# Altium integrated library Analog Devices Interface and Isolation Protection Products.IntLib: 92 symbols (part 1 of 5)
Pins are listed as number, name and electrical type; pins without a type are passive.

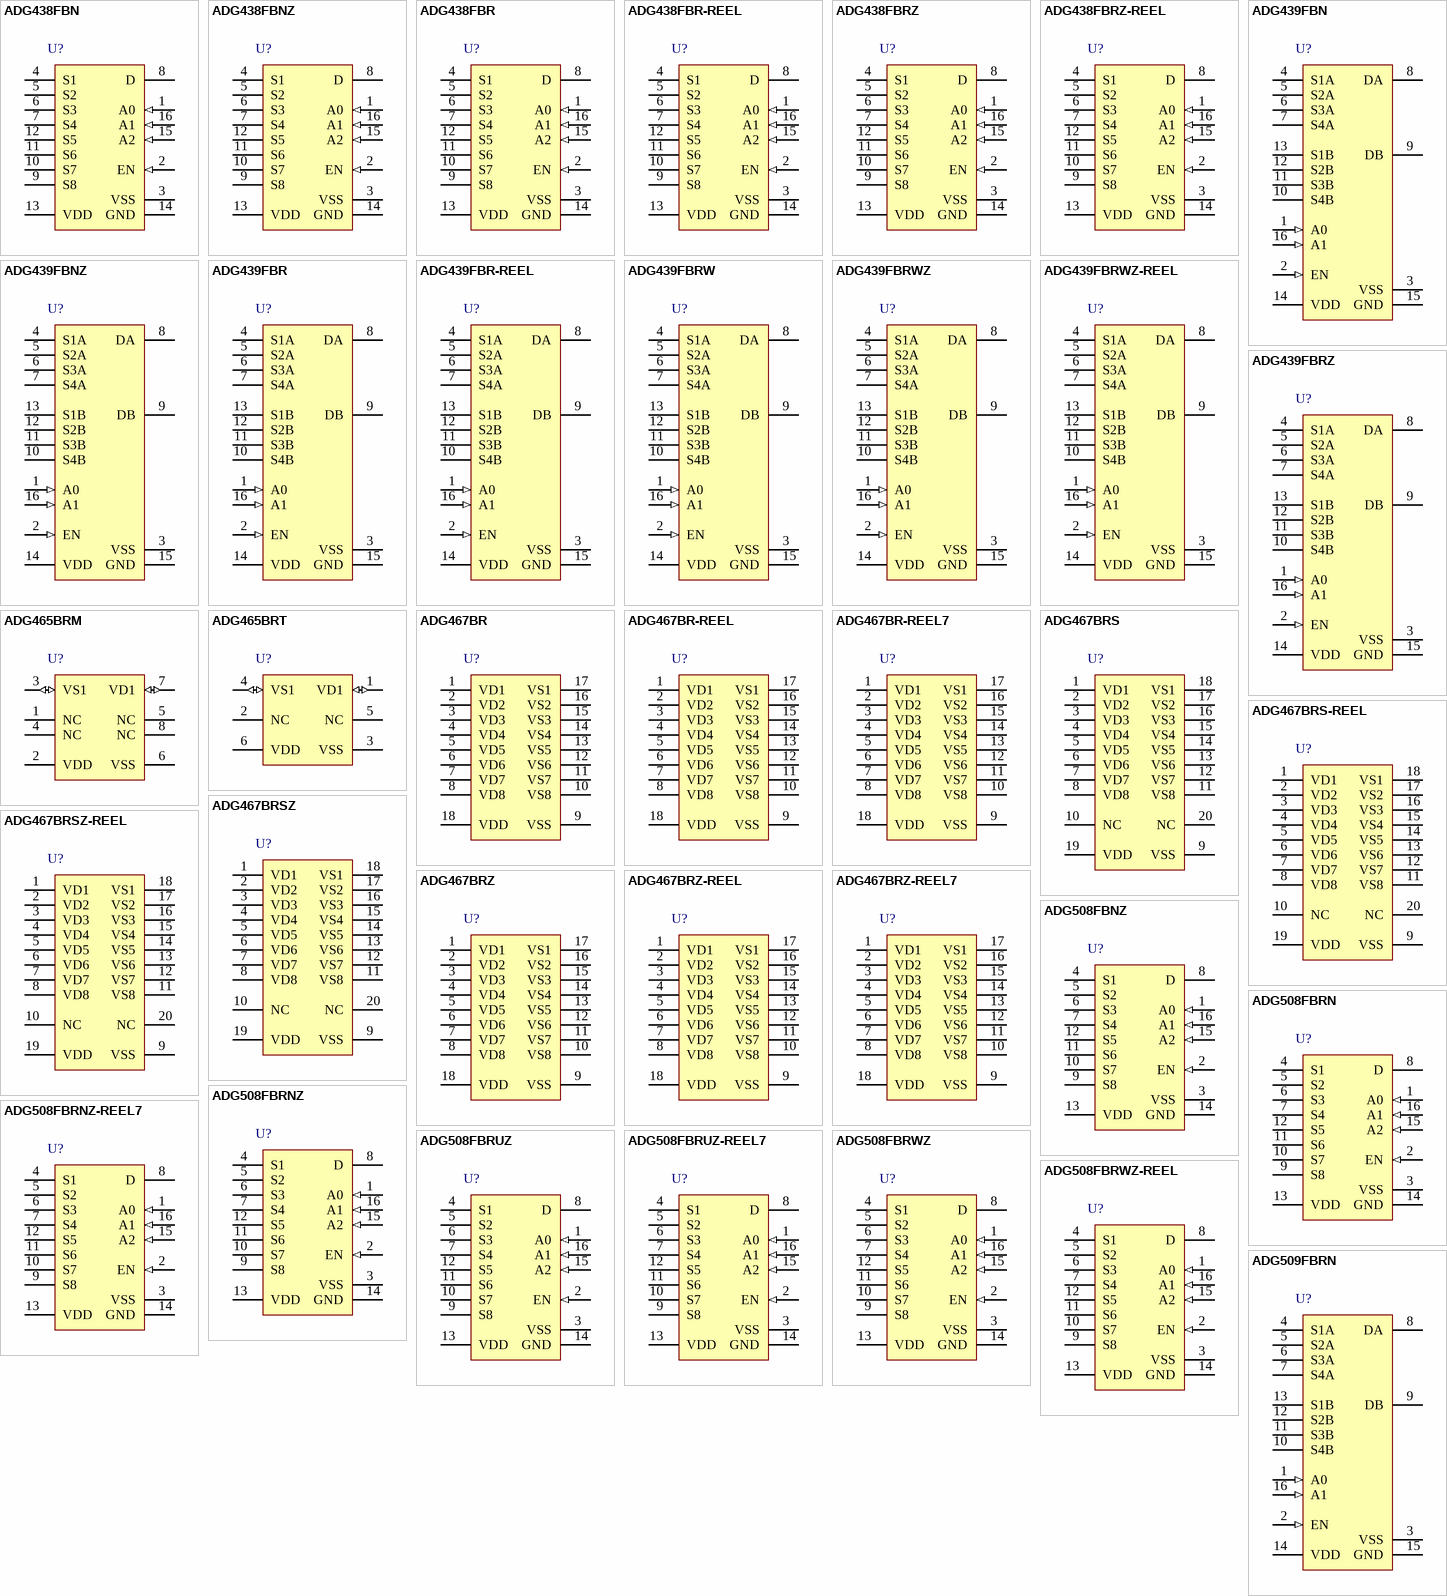
[diagram p0: symbols ADG438FBN to ADG509FBRN]

## ADG438FBN
designator U?
High Performance, 8-Channel, Fault-Protected Analog Multiplexer, -40 to 125 degC, 16-pin DIP (N-16), Tube; Manufacturer: Analog Devices; PartNumber: ADG438FBN; Ron (ohms): 400; Supply V Guar Performance: Dual_(+/-15V); t transition (s): 170n; DatasheetVersion: Rev. E; PackageVersion: 070706-A, 07/2006; PackageReference: N-16; PackageDescription: 16-Pin Plastic Dual In-Line Package, Row spacing 7.62 mm, Pitch 2.54 mm; Packing: Tube; Mounting Technology: Through Hole; Code_JEDEC: MS-001; ComponentLink1Description: Manufacturer URL; ComponentLink1URL: http://www.analog.com/en/index.html; ComponentLink2Description: Datasheet; ComponentLink2URL: http://www.analog.com/static/imported-files/data_sheets/ADG438F_439F.pdf; ComponentLink3Description: Package Specification; ComponentLink3URL: http://www.analog.com/static/imported-files/packages/44768431550332N_16.pdf
footprint ADI-N-16 (DIP, 16-Leads, Body 20.07x6.6mm, Pitch 2.54mm)
pins: 1 A0 (in) "Logic Control Input.", 2 EN (in) "Active High Digital Input. When low, the device is disabled, and all switches are off. When high, Ax logic inputs determine on switches.", 3 VSS (power) "Most Negative Power Supply Potential. In single-supply applications, this pin can be connected to ground.", 4 S1 "Source Terminal 1. This pin can be an input or an output.", 5 S2 "Source Terminal 2. This pin can be an input or an output.", 6 S3 "Source Terminal 3. This pin can be an input or an output.", 7 S4 "Source Terminal 4. This pin can be an input or an output.", 8 D "Drain Terminal. This pin can be an input or an output.", 9 S8 "Source Terminal 8. This pin can be an input or an output.", 10 S7 "Source Terminal 7. This pin can be an input or an output.", 11 S6 "Source Terminal 6. This pin can be an input or an output.", 12 S5 "Source Terminal 5. This pin can be an input or an output.", 13 VDD (power) "Most Positive Power Supply Potential.", 14 GND (power) "Ground (0 V) Reference.", 15 A2 (in) "Logic Control Input.", 16 A1 (in) "Logic Control Input."

## ADG438FBNZ
designator U?
High Performance, 8-Channel, Fault-Protected Analog Multiplexer, -40 to 125 degC, 16-pin DIP (N-16), Tube; Manufacturer: Analog Devices; PartNumber: ADG438FBNZ; Ron (ohms): 400; Supply V Guar Performance: Dual_(+/-15V); t transition (s): 170n; DatasheetVersion: Rev. E; PackageVersion: 070706-A, 07/2006; PackageReference: N-16; PackageDescription: 16-Pin Plastic Dual In-Line Package, Row spacing 7.62 mm, Pitch 2.54 mm; Supplier 1: Mouser; Supplier Part Number 1: N/A; Packing: Tube; Mounting Technology: Through Hole; Code_JEDEC: MS-001; ComponentLink1Description: Manufacturer URL; ComponentLink1URL: http://www.analog.com/en/index.html; ComponentLink2Description: Datasheet; ComponentLink2URL: http://www.analog.com/static/imported-files/data_sheets/ADG438F_439F.pdf; ComponentLink3Description: Package Specification; ComponentLink3URL: http://www.analog.com/static/imported-files/packages/44768431550332N_16.pdf
footprint ADI-N-16 (DIP, 16-Leads, Body 20.07x6.6mm, Pitch 2.54mm)
pins: 1 A0 (in) "Logic Control Input.", 2 EN (in) "Active High Digital Input. When low, the device is disabled, and all switches are off. When high, Ax logic inputs determine on switches.", 3 VSS (power) "Most Negative Power Supply Potential. In single-supply applications, this pin can be connected to ground.", 4 S1 "Source Terminal 1. This pin can be an input or an output.", 5 S2 "Source Terminal 2. This pin can be an input or an output.", 6 S3 "Source Terminal 3. This pin can be an input or an output.", 7 S4 "Source Terminal 4. This pin can be an input or an output.", 8 D "Drain Terminal. This pin can be an input or an output.", 9 S8 "Source Terminal 8. This pin can be an input or an output.", 10 S7 "Source Terminal 7. This pin can be an input or an output.", 11 S6 "Source Terminal 6. This pin can be an input or an output.", 12 S5 "Source Terminal 5. This pin can be an input or an output.", 13 VDD (power) "Most Positive Power Supply Potential.", 14 GND (power) "Ground (0 V) Reference.", 15 A2 (in) "Logic Control Input.", 16 A1 (in) "Logic Control Input."

## ADG438FBR
designator U?
High Performance, 8-Channel, Fault-Protected Analog Multiplexer, -40 to 125 degC, 16-pin SOIC (R-16), Tube; Manufacturer: Analog Devices; PartNumber: ADG438FBR; Ron (ohms): 400; Supply V Guar Performance: Dual_(+/-15V); t transition (s): 170n; DatasheetVersion: Rev. E; PackageVersion: 060606-A, 06/2006; PackageReference: R-16; PackageDescription: 16-Pin Standard Small Outline Package, Body 9.9 x 3.9 mm, Pitch 1.27 mm; Supplier 1: Digi-Key; Supplier Part Number 1: ADG438FBR-ND; Supplier 2: Mouser; Supplier Part Number 2: 584-ADG438FBR; Packing: Tube; Mounting Technology: Surface Mount; Code_JEDEC: MS-012-AC; ComponentLink1Description: Manufacturer URL; ComponentLink1URL: http://www.analog.com/en/index.html; ComponentLink2Description: Datasheet; ComponentLink2URL: http://www.analog.com/static/imported-files/data_sheets/ADG438F_439F.pdf; ComponentLink3Description: Package Specification; ComponentLink3URL: http://www.analog.com/static/imported-files/packages/PKG_PDF/SOIC_Narrow%20(R)/R_16.pdf
footprint ADI-R-16_N (SOIC, 16-Leads, Body 9.9x3.9mm, Pitch 1.27mm, IPC Medium Density)
footprint ADI-R-16_L (SOIC, 16-Leads, Body 9.9x3.9mm, Pitch 1.27mm, IPC High Density)
footprint ADI-R-16_M (SOIC, 16-Leads, Body 9.9x3.9mm, Pitch 1.27mm, IPC Low Density)
pins: 1 A0 (in) "Logic Control Input.", 2 EN (in) "Active High Digital Input. When low, the device is disabled, and all switches are off. When high, Ax logic inputs determine on switches.", 3 VSS (power) "Most Negative Power Supply Potential. In single-supply applications, this pin can be connected to ground.", 4 S1 "Source Terminal 1. This pin can be an input or an output.", 5 S2 "Source Terminal 2. This pin can be an input or an output.", 6 S3 "Source Terminal 3. This pin can be an input or an output.", 7 S4 "Source Terminal 4. This pin can be an input or an output.", 8 D "Drain Terminal. This pin can be an input or an output.", 9 S8 "Source Terminal 8. This pin can be an input or an output.", 10 S7 "Source Terminal 7. This pin can be an input or an output.", 11 S6 "Source Terminal 6. This pin can be an input or an output.", 12 S5 "Source Terminal 5. This pin can be an input or an output.", 13 VDD (power) "Most Positive Power Supply Potential.", 14 GND (power) "Ground (0 V) Reference.", 15 A2 (in) "Logic Control Input.", 16 A1 (in) "Logic Control Input."

## ADG438FBR-REEL
designator U?
High Performance, 8-Channel, Fault-Protected Analog Multiplexer, -40 to 125 degC, 16-pin SOIC (R-16), Reel; Manufacturer: Analog Devices; PartNumber: ADG438FBR-REEL; Ron (ohms): 400; Supply V Guar Performance: Dual_(+/-15V); t transition (s): 170n; DatasheetVersion: Rev. E; PackageVersion: 060606-A, 06/2006; PackageReference: R-16; PackageDescription: 16-Pin Standard Small Outline Package, Body 9.9 x 3.9 mm, Pitch 1.27 mm; Supplier 1: Mouser; Supplier Part Number 1: N/A; Packing: Reel; Mounting Technology: Surface Mount; Code_JEDEC: MS-012-AC; ComponentLink1Description: Manufacturer URL; ComponentLink1URL: http://www.analog.com/en/index.html; ComponentLink2Description: Datasheet; ComponentLink2URL: http://www.analog.com/static/imported-files/data_sheets/ADG438F_439F.pdf; ComponentLink3Description: Package Specification; ComponentLink3URL: http://www.analog.com/static/imported-files/packages/PKG_PDF/SOIC_Narrow%20(R)/R_16.pdf
footprint ADI-R-16_N (SOIC, 16-Leads, Body 9.9x3.9mm, Pitch 1.27mm, IPC Medium Density)
footprint ADI-R-16_L (SOIC, 16-Leads, Body 9.9x3.9mm, Pitch 1.27mm, IPC High Density)
footprint ADI-R-16_M (SOIC, 16-Leads, Body 9.9x3.9mm, Pitch 1.27mm, IPC Low Density)
pins: 1 A0 (in) "Logic Control Input.", 2 EN (in) "Active High Digital Input. When low, the device is disabled, and all switches are off. When high, Ax logic inputs determine on switches.", 3 VSS (power) "Most Negative Power Supply Potential. In single-supply applications, this pin can be connected to ground.", 4 S1 "Source Terminal 1. This pin can be an input or an output.", 5 S2 "Source Terminal 2. This pin can be an input or an output.", 6 S3 "Source Terminal 3. This pin can be an input or an output.", 7 S4 "Source Terminal 4. This pin can be an input or an output.", 8 D "Drain Terminal. This pin can be an input or an output.", 9 S8 "Source Terminal 8. This pin can be an input or an output.", 10 S7 "Source Terminal 7. This pin can be an input or an output.", 11 S6 "Source Terminal 6. This pin can be an input or an output.", 12 S5 "Source Terminal 5. This pin can be an input or an output.", 13 VDD (power) "Most Positive Power Supply Potential.", 14 GND (power) "Ground (0 V) Reference.", 15 A2 (in) "Logic Control Input.", 16 A1 (in) "Logic Control Input."

## ADG438FBRZ
designator U?
High Performance, 8-Channel, Fault-Protected Analog Multiplexer, -40 to 125 degC, 16-pin SOIC (R-16), Tube; Manufacturer: Analog Devices; PartNumber: ADG438FBRZ; Ron (ohms): 400; Supply V Guar Performance: Dual_(+/-15V); t transition (s): 170n; DatasheetVersion: Rev. E; PackageVersion: 060606-A, 06/2006; PackageReference: R-16; PackageDescription: 16-Pin Standard Small Outline Package, Body 9.9 x 3.9 mm, Pitch 1.27 mm; Supplier 1: Digi-Key; Supplier Part Number 1: ADG438FBRZ-ND; Supplier 2: Farnell; Supplier Part Number 2: 2305796; Supplier 3: Newark; Supplier Part Number 3: 59K1296; Supplier 4: Mouser; Supplier Part Number 4: 584-ADG438FBRZ; Packing: Tube; Mounting Technology: Surface Mount; Code_JEDEC: MS-012-AC; ComponentLink1Description: Manufacturer URL; ComponentLink1URL: http://www.analog.com/en/index.html; ComponentLink2Description: Datasheet; ComponentLink2URL: http://www.analog.com/static/imported-files/data_sheets/ADG438F_439F.pdf; ComponentLink3Description: Package Specification; ComponentLink3URL: http://www.analog.com/static/imported-files/packages/PKG_PDF/SOIC_Narrow%20(R)/R_16.pdf
footprint ADI-R-16_N (SOIC, 16-Leads, Body 9.9x3.9mm, Pitch 1.27mm, IPC Medium Density)
footprint ADI-R-16_L (SOIC, 16-Leads, Body 9.9x3.9mm, Pitch 1.27mm, IPC High Density)
footprint ADI-R-16_M (SOIC, 16-Leads, Body 9.9x3.9mm, Pitch 1.27mm, IPC Low Density)
pins: 1 A0 (in) "Logic Control Input.", 2 EN (in) "Active High Digital Input. When low, the device is disabled, and all switches are off. When high, Ax logic inputs determine on switches.", 3 VSS (power) "Most Negative Power Supply Potential. In single-supply applications, this pin can be connected to ground.", 4 S1 "Source Terminal 1. This pin can be an input or an output.", 5 S2 "Source Terminal 2. This pin can be an input or an output.", 6 S3 "Source Terminal 3. This pin can be an input or an output.", 7 S4 "Source Terminal 4. This pin can be an input or an output.", 8 D "Drain Terminal. This pin can be an input or an output.", 9 S8 "Source Terminal 8. This pin can be an input or an output.", 10 S7 "Source Terminal 7. This pin can be an input or an output.", 11 S6 "Source Terminal 6. This pin can be an input or an output.", 12 S5 "Source Terminal 5. This pin can be an input or an output.", 13 VDD (power) "Most Positive Power Supply Potential.", 14 GND (power) "Ground (0 V) Reference.", 15 A2 (in) "Logic Control Input.", 16 A1 (in) "Logic Control Input."

## ADG438FBRZ-REEL
designator U?
High Performance, 8-Channel, Fault-Protected Analog Multiplexer, -40 to 125 degC, 16-pin SOIC (R-16), Reel; Manufacturer: Analog Devices; PartNumber: ADG438FBRZ-REEL; Ron (ohms): 400; Supply V Guar Performance: Dual_(+/-15V); t transition (s): 170n; DatasheetVersion: Rev. E; PackageVersion: 060606-A, 06/2006; PackageReference: R-16; PackageDescription: 16-Pin Standard Small Outline Package, Body 9.9 x 3.9 mm, Pitch 1.27 mm; Supplier 1: Digi-Key; Supplier Part Number 1: ADG438FBRZ-REEL-ND; Supplier 2: Newark; Supplier Part Number 2: 59K1297; Supplier 3: Mouser; Supplier Part Number 3: 584-ADG438FBRZ-R; Packing: Reel; Mounting Technology: Surface Mount; Code_JEDEC: MS-012-AC; ComponentLink1Description: Manufacturer URL; ComponentLink1URL: http://www.analog.com/en/index.html; ComponentLink2Description: Datasheet; ComponentLink2URL: http://www.analog.com/static/imported-files/data_sheets/ADG438F_439F.pdf; ComponentLink3Description: Package Specification; ComponentLink3URL: http://www.analog.com/static/imported-files/packages/PKG_PDF/SOIC_Narrow%20(R)/R_16.pdf
footprint ADI-R-16_N (SOIC, 16-Leads, Body 9.9x3.9mm, Pitch 1.27mm, IPC Medium Density)
footprint ADI-R-16_L (SOIC, 16-Leads, Body 9.9x3.9mm, Pitch 1.27mm, IPC High Density)
footprint ADI-R-16_M (SOIC, 16-Leads, Body 9.9x3.9mm, Pitch 1.27mm, IPC Low Density)
pins: 1 A0 (in) "Logic Control Input.", 2 EN (in) "Active High Digital Input. When low, the device is disabled, and all switches are off. When high, Ax logic inputs determine on switches.", 3 VSS (power) "Most Negative Power Supply Potential. In single-supply applications, this pin can be connected to ground.", 4 S1 "Source Terminal 1. This pin can be an input or an output.", 5 S2 "Source Terminal 2. This pin can be an input or an output.", 6 S3 "Source Terminal 3. This pin can be an input or an output.", 7 S4 "Source Terminal 4. This pin can be an input or an output.", 8 D "Drain Terminal. This pin can be an input or an output.", 9 S8 "Source Terminal 8. This pin can be an input or an output.", 10 S7 "Source Terminal 7. This pin can be an input or an output.", 11 S6 "Source Terminal 6. This pin can be an input or an output.", 12 S5 "Source Terminal 5. This pin can be an input or an output.", 13 VDD (power) "Most Positive Power Supply Potential.", 14 GND (power) "Ground (0 V) Reference.", 15 A2 (in) "Logic Control Input.", 16 A1 (in) "Logic Control Input."

## ADG439FBN
designator U?
High Performance, 4-Channel, Fault-Protected Analog Multiplexer, -40 to 125 degC, 16-pin DIP (N-16), Tube; Manufacturer: Analog Devices; PartNumber: ADG439FBN; Ron (ohms): 400; Supply V Guar Performance: Dual_(+/-15V); t transition (s): 170n; DatasheetVersion: Rev. E; PackageVersion: 070706-A, 07/2006; PackageReference: N-16; PackageDescription: 16-Pin Plastic Dual In-Line Package, Row spacing 7.62 mm, Pitch 2.54 mm; Packing: Tube; Mounting Technology: Through Hole; Code_JEDEC: MS-001; ComponentLink1Description: Manufacturer URL; ComponentLink1URL: http://www.analog.com/en/index.html; ComponentLink2Description: Datasheet; ComponentLink2URL: http://www.analog.com/static/imported-files/data_sheets/ADG438F_439F.pdf; ComponentLink3Description: Package Specification; ComponentLink3URL: http://www.analog.com/static/imported-files/packages/44768431550332N_16.pdf
footprint ADI-N-16 (DIP, 16-Leads, Body 20.07x6.6mm, Pitch 2.54mm)
pins: 1 A0 (in) "Logic Control Input.", 2 EN (in) "Active High Digital Input. When low, the device is disabled and all switches are off. When high, Ax logic inputs determine on switches.", 3 VSS (power) "Most Negative Power Supply Potential in Dual Supplies. In single-supply applications, it can be connected to ground.", 4 S1A "Source Terminal 1A. Can be an input or an output.", 5 S2A "Source Terminal 2A. Can be an input or an output.", 6 S3A "Source Terminal 3A. Can be an input or an output.", 7 S4A "Source Terminal 4A. Can be an input or an output.", 8 DA "Drain Terminal A. Can be an input or an output.", 9 DB "Drain Terminal B. Can be an input or an output.", 10 S4B "Source Terminal 4B. Can be an input or an output.", 11 S3B "Source Terminal 3B. Can be an input or an output.", 12 S2B "Source Terminal 2B. Can be an input or an output.", 13 S1B "Source Terminal 1B. Can be an input or an output.", 14 VDD (power) "Most Positive Power Supply Potential.", 15 GND (power) "Ground (0 V) Reference.", 16 A1 (in) "Logic Control Input."

## ADG439FBNZ
designator U?
High Performance, 4-Channel, Fault-Protected Analog Multiplexer, -40 to 125 degC, 16-pin DIP (N-16), Tube; Manufacturer: Analog Devices; PartNumber: ADG439FBNZ; Ron (ohms): 400; Supply V Guar Performance: Dual_(+/-15V); t transition (s): 170n; DatasheetVersion: Rev. E; PackageVersion: 070706-A, 07/2006; PackageReference: N-16; PackageDescription: 16-Pin Plastic Dual In-Line Package, Row spacing 7.62 mm, Pitch 2.54 mm; Supplier 1: Mouser; Supplier Part Number 1: N/A; Packing: Tube; Mounting Technology: Through Hole; Code_JEDEC: MS-001; ComponentLink1Description: Manufacturer URL; ComponentLink1URL: http://www.analog.com/en/index.html; ComponentLink2Description: Datasheet; ComponentLink2URL: http://www.analog.com/static/imported-files/data_sheets/ADG438F_439F.pdf; ComponentLink3Description: Package Specification; ComponentLink3URL: http://www.analog.com/static/imported-files/packages/44768431550332N_16.pdf
footprint ADI-N-16 (DIP, 16-Leads, Body 20.07x6.6mm, Pitch 2.54mm)
pins: 1 A0 (in) "Logic Control Input.", 2 EN (in) "Active High Digital Input. When low, the device is disabled and all switches are off. When high, Ax logic inputs determine on switches.", 3 VSS (power) "Most Negative Power Supply Potential in Dual Supplies. In single-supply applications, it can be connected to ground.", 4 S1A "Source Terminal 1A. Can be an input or an output.", 5 S2A "Source Terminal 2A. Can be an input or an output.", 6 S3A "Source Terminal 3A. Can be an input or an output.", 7 S4A "Source Terminal 4A. Can be an input or an output.", 8 DA "Drain Terminal A. Can be an input or an output.", 9 DB "Drain Terminal B. Can be an input or an output.", 10 S4B "Source Terminal 4B. Can be an input or an output.", 11 S3B "Source Terminal 3B. Can be an input or an output.", 12 S2B "Source Terminal 2B. Can be an input or an output.", 13 S1B "Source Terminal 1B. Can be an input or an output.", 14 VDD (power) "Most Positive Power Supply Potential.", 15 GND (power) "Ground (0 V) Reference.", 16 A1 (in) "Logic Control Input."

## ADG439FBR
designator U?
High Performance, 4-Channel, Fault-Protected Analog Multiplexer, -40 to 125 degC, 16-pin SOIC (R-16), Tube; Manufacturer: Analog Devices; PartNumber: ADG439FBR; Ron (ohms): 400; Supply V Guar Performance: Dual_(+/-15V); t transition (s): 170n; DatasheetVersion: Rev. E; PackageVersion: 060606-A, 06/2006; PackageReference: R-16; PackageDescription: 16-Pin Standard Small Outline Package, Body 9.9 x 3.9 mm, Pitch 1.27 mm; Supplier 1: Digi-Key; Supplier Part Number 1: ADG439FBR-ND; Supplier 2: Mouser; Supplier Part Number 2: 584-ADG439FBR; Packing: Tube; Mounting Technology: Surface Mount; Code_JEDEC: MS-012-AC; ComponentLink1Description: Manufacturer URL; ComponentLink1URL: http://www.analog.com/en/index.html; ComponentLink2Description: Datasheet; ComponentLink2URL: http://www.analog.com/static/imported-files/data_sheets/ADG438F_439F.pdf; ComponentLink3Description: Package Specification; ComponentLink3URL: http://www.analog.com/static/imported-files/packages/PKG_PDF/SOIC_Narrow%20(R)/R_16.pdf
footprint ADI-R-16_N (SOIC, 16-Leads, Body 9.9x3.9mm, Pitch 1.27mm, IPC Medium Density)
footprint ADI-R-16_L (SOIC, 16-Leads, Body 9.9x3.9mm, Pitch 1.27mm, IPC High Density)
footprint ADI-R-16_M (SOIC, 16-Leads, Body 9.9x3.9mm, Pitch 1.27mm, IPC Low Density)
pins: 1 A0 (in) "Logic Control Input.", 2 EN (in) "Active High Digital Input. When low, the device is disabled and all switches are off. When high, Ax logic inputs determine on switches.", 3 VSS (power) "Most Negative Power Supply Potential in Dual Supplies. In single-supply applications, it can be connected to ground.", 4 S1A "Source Terminal 1A. Can be an input or an output.", 5 S2A "Source Terminal 2A. Can be an input or an output.", 6 S3A "Source Terminal 3A. Can be an input or an output.", 7 S4A "Source Terminal 4A. Can be an input or an output.", 8 DA "Drain Terminal A. Can be an input or an output.", 9 DB "Drain Terminal B. Can be an input or an output.", 10 S4B "Source Terminal 4B. Can be an input or an output.", 11 S3B "Source Terminal 3B. Can be an input or an output.", 12 S2B "Source Terminal 2B. Can be an input or an output.", 13 S1B "Source Terminal 1B. Can be an input or an output.", 14 VDD (power) "Most Positive Power Supply Potential.", 15 GND (power) "Ground (0 V) Reference.", 16 A1 (in) "Logic Control Input."

## ADG439FBR-REEL
designator U?
High Performance, 4-Channel, Fault-Protected Analog Multiplexer, -40 to 125 degC, 16-pin SOIC (R-16), Reel; Manufacturer: Analog Devices; PartNumber: ADG439FBR-REEL; Ron (ohms): 400; Supply V Guar Performance: Dual_(+/-15V); t transition (s): 170n; DatasheetVersion: Rev. E; PackageVersion: 060606-A, 06/2006; PackageReference: R-16; PackageDescription: 16-Pin Standard Small Outline Package, Body 9.9 x 3.9 mm, Pitch 1.27 mm; Supplier 1: Mouser; Supplier Part Number 1: N/A; Packing: Reel; Mounting Technology: Surface Mount; Code_JEDEC: MS-012-AC; ComponentLink1Description: Manufacturer URL; ComponentLink1URL: http://www.analog.com/en/index.html; ComponentLink2Description: Datasheet; ComponentLink2URL: http://www.analog.com/static/imported-files/data_sheets/ADG438F_439F.pdf; ComponentLink3Description: Package Specification; ComponentLink3URL: http://www.analog.com/static/imported-files/packages/PKG_PDF/SOIC_Narrow%20(R)/R_16.pdf
footprint ADI-R-16_N (SOIC, 16-Leads, Body 9.9x3.9mm, Pitch 1.27mm, IPC Medium Density)
footprint ADI-R-16_L (SOIC, 16-Leads, Body 9.9x3.9mm, Pitch 1.27mm, IPC High Density)
footprint ADI-R-16_M (SOIC, 16-Leads, Body 9.9x3.9mm, Pitch 1.27mm, IPC Low Density)
pins: 1 A0 (in) "Logic Control Input.", 2 EN (in) "Active High Digital Input. When low, the device is disabled and all switches are off. When high, Ax logic inputs determine on switches.", 3 VSS (power) "Most Negative Power Supply Potential in Dual Supplies. In single-supply applications, it can be connected to ground.", 4 S1A "Source Terminal 1A. Can be an input or an output.", 5 S2A "Source Terminal 2A. Can be an input or an output.", 6 S3A "Source Terminal 3A. Can be an input or an output.", 7 S4A "Source Terminal 4A. Can be an input or an output.", 8 DA "Drain Terminal A. Can be an input or an output.", 9 DB "Drain Terminal B. Can be an input or an output.", 10 S4B "Source Terminal 4B. Can be an input or an output.", 11 S3B "Source Terminal 3B. Can be an input or an output.", 12 S2B "Source Terminal 2B. Can be an input or an output.", 13 S1B "Source Terminal 1B. Can be an input or an output.", 14 VDD (power) "Most Positive Power Supply Potential.", 15 GND (power) "Ground (0 V) Reference.", 16 A1 (in) "Logic Control Input."

## ADG439FBRW
designator U?
High Performance, 4-Channel, Fault-Protected Analog Multiplexer, -40 to 125 degC, 16-pin SOIC (RW-16), Tube; Manufacturer: Analog Devices; PartNumber: ADG439FBRW; Ron (ohms): 400; Supply V Guar Performance: Dual_(+/-15V); t transition (s): 170n; DatasheetVersion: Rev. E; PackageVersion: 032707-B, 03/2007; PackageReference: RW-16; PackageDescription: 16-Pin Standard Small Outline Package, Body 10.3 x 7.5 mm, Pitch 1.27 mm; Supplier 1: Mouser; Supplier Part Number 1: N/A; Packing: Tube; Mounting Technology: Surface Mount; Code_JEDEC: MS-013-AA; ComponentLink1Description: Manufacturer URL; ComponentLink1URL: http://www.analog.com/en/index.html; ComponentLink2Description: Datasheet; ComponentLink2URL: http://www.analog.com/static/imported-files/data_sheets/ADG438F_439F.pdf; ComponentLink3Description: Package Specification; ComponentLink3URL: http://www.analog.com/static/imported-files/packages/PKG_PDF/SOIC_WIDE%20%28RW%29/RW_16.pdf
footprint ADI-RW-16_N (SOIC, 16-Leads, Body 10.3x7.5mm, Pitch 1.27mm, IPC Medium Density)
footprint ADI-RW-16_L (SOIC, 16-Leads, Body 10.3x7.5mm, Pitch 1.27mm, IPC High Density)
footprint ADI-RW-16_M (SOIC, 16-Leads, Body 10.3x7.5mm, Pitch 1.27mm, IPC Low Density)
pins: 1 A0 (in) "Logic Control Input.", 2 EN (in) "Active High Digital Input. When low, the device is disabled, and all switches are off.When high, Ax logic inputs determine on switches.", 3 VSS (power) "Most Negative Power Supply Potential. In single-supply applications, this pin can be connected to ground.", 4 S1A "Source Terminal 1A. This pin can be an input or an output.", 5 S2A "Source Terminal 2A. This pin can be an input or an output.", 6 S3A "Source Terminal 3A. This pin can be an input or an output.", 7 S4A "Source Terminal 4A. This pin can be an input or an output.", 8 DA "Drain Terminal A. This pin can be an input or an output.", 9 DB "Drain Terminal B. This pin can be an input or an output.", 10 S4B "Source Terminal 4B. This pin can be an input or an output.", 11 S3B "Source Terminal 3B. This pin can be an input or an output.", 12 S2B "Source Terminal 2B. This pin can be an input or an output.", 13 S1B "Source Terminal 1B. This pin can be an input or an output.", 14 VDD (power) "Most Positive Power Supply Potential.", 15 GND (power) "Ground (0 V) Reference.", 16 A1 (in) "Logic Control Input."

## ADG439FBRWZ
designator U?
High Performance, 4-Channel, Fault-Protected Analog Multiplexer, -40 to 125 degC, 16-pin SOIC (RW-16), Tube; Manufacturer: Analog Devices; PartNumber: ADG439FBRWZ; Ron (ohms): 400; Supply V Guar Performance: Dual_(+/-15V); t transition (s): 170n; DatasheetVersion: Rev. E; PackageVersion: 032707-B, 03/2007; PackageReference: RW-16; PackageDescription: 16-Pin Standard Small Outline Package, Body 10.3 x 7.5 mm, Pitch 1.27 mm; Supplier 1: Digi-Key; Supplier Part Number 1: ADG439FBRWZ-ND; Supplier 2: Mouser; Supplier Part Number 2: 584-ADG439FBRWZ; Packing: Tube; Mounting Technology: Surface Mount; Code_JEDEC: MS-013-AA; ComponentLink1Description: Manufacturer URL; ComponentLink1URL: http://www.analog.com/en/index.html; ComponentLink2Description: Datasheet; ComponentLink2URL: http://www.analog.com/static/imported-files/data_sheets/ADG438F_439F.pdf; ComponentLink3Description: Package Specification; ComponentLink3URL: http://www.analog.com/static/imported-files/packages/PKG_PDF/SOIC_WIDE%20%28RW%29/RW_16.pdf
footprint ADI-RW-16_N (SOIC, 16-Leads, Body 10.3x7.5mm, Pitch 1.27mm, IPC Medium Density)
footprint ADI-RW-16_L (SOIC, 16-Leads, Body 10.3x7.5mm, Pitch 1.27mm, IPC High Density)
footprint ADI-RW-16_M (SOIC, 16-Leads, Body 10.3x7.5mm, Pitch 1.27mm, IPC Low Density)
pins: 1 A0 (in) "Logic Control Input.", 2 EN (in) "Active High Digital Input. When low, the device is disabled, and all switches are off.When high, Ax logic inputs determine on switches.", 3 VSS (power) "Most Negative Power Supply Potential. In single-supply applications, this pin can be connected to ground.", 4 S1A "Source Terminal 1A. This pin can be an input or an output.", 5 S2A "Source Terminal 2A. This pin can be an input or an output.", 6 S3A "Source Terminal 3A. This pin can be an input or an output.", 7 S4A "Source Terminal 4A. This pin can be an input or an output.", 8 DA "Drain Terminal A. This pin can be an input or an output.", 9 DB "Drain Terminal B. This pin can be an input or an output.", 10 S4B "Source Terminal 4B. This pin can be an input or an output.", 11 S3B "Source Terminal 3B. This pin can be an input or an output.", 12 S2B "Source Terminal 2B. This pin can be an input or an output.", 13 S1B "Source Terminal 1B. This pin can be an input or an output.", 14 VDD (power) "Most Positive Power Supply Potential.", 15 GND (power) "Ground (0 V) Reference.", 16 A1 (in) "Logic Control Input."

## ADG439FBRWZ-REEL
designator U?
High Performance, 4-Channel, Fault-Protected Analog Multiplexer, -40 to 125 degC, 16-pin SOIC (RW-16), Reel; Manufacturer: Analog Devices; PartNumber: ADG439FBRWZ-REEL; Ron (ohms): 400; Supply V Guar Performance: Dual_(+/-15V); t transition (s): 170n; DatasheetVersion: Rev. E; PackageVersion: 032707-B, 03/2007; PackageReference: RW-16; PackageDescription: 16-Pin Standard Small Outline Package, Body 10.3 x 7.5 mm, Pitch 1.27 mm; Supplier 1: Mouser; Supplier Part Number 1: 584-ADG439FBRWZ-R; Packing: Reel; Mounting Technology: Surface Mount; Code_JEDEC: MS-013-AA; ComponentLink1Description: Manufacturer URL; ComponentLink1URL: http://www.analog.com/en/index.html; ComponentLink2Description: Datasheet; ComponentLink2URL: http://www.analog.com/static/imported-files/data_sheets/ADG438F_439F.pdf; ComponentLink3Description: Package Specification; ComponentLink3URL: http://www.analog.com/static/imported-files/packages/PKG_PDF/SOIC_WIDE%20%28RW%29/RW_16.pdf
footprint ADI-RW-16_N (SOIC, 16-Leads, Body 10.3x7.5mm, Pitch 1.27mm, IPC Medium Density)
footprint ADI-RW-16_L (SOIC, 16-Leads, Body 10.3x7.5mm, Pitch 1.27mm, IPC High Density)
footprint ADI-RW-16_M (SOIC, 16-Leads, Body 10.3x7.5mm, Pitch 1.27mm, IPC Low Density)
pins: 1 A0 (in) "Logic Control Input.", 2 EN (in) "Active High Digital Input. When low, the device is disabled, and all switches are off.When high, Ax logic inputs determine on switches.", 3 VSS (power) "Most Negative Power Supply Potential. In single-supply applications, this pin can be connected to ground.", 4 S1A "Source Terminal 1A. This pin can be an input or an output.", 5 S2A "Source Terminal 2A. This pin can be an input or an output.", 6 S3A "Source Terminal 3A. This pin can be an input or an output.", 7 S4A "Source Terminal 4A. This pin can be an input or an output.", 8 DA "Drain Terminal A. This pin can be an input or an output.", 9 DB "Drain Terminal B. This pin can be an input or an output.", 10 S4B "Source Terminal 4B. This pin can be an input or an output.", 11 S3B "Source Terminal 3B. This pin can be an input or an output.", 12 S2B "Source Terminal 2B. This pin can be an input or an output.", 13 S1B "Source Terminal 1B. This pin can be an input or an output.", 14 VDD (power) "Most Positive Power Supply Potential.", 15 GND (power) "Ground (0 V) Reference.", 16 A1 (in) "Logic Control Input."

## ADG439FBRZ
designator U?
High Performance, 4-Channel, Fault-Protected Analog Multiplexer, -40 to 125 degC, 16-pin SOIC (R-16), Tube; Manufacturer: Analog Devices; PartNumber: ADG439FBRZ; Ron (ohms): 400; Supply V Guar Performance: Dual_(+/-15V); t transition (s): 170n; DatasheetVersion: Rev. E; PackageVersion: 060606-A, 06/2006; PackageReference: R-16; PackageDescription: 16-Pin Standard Small Outline Package, Body 9.9 x 3.9 mm, Pitch 1.27 mm; Supplier 1: Digi-Key; Supplier Part Number 1: ADG439FBRZ-ND; Supplier 2: Farnell; Supplier Part Number 2: 2305797; Supplier 3: Newark; Supplier Part Number 3: 19M8654; Supplier 4: Mouser; Supplier Part Number 4: 584-ADG439FBRZ; Packing: Tube; Mounting Technology: Surface Mount; Code_JEDEC: MS-012-AC; ComponentLink1Description: Manufacturer URL; ComponentLink1URL: http://www.analog.com/en/index.html; ComponentLink2Description: Datasheet; ComponentLink2URL: http://www.analog.com/static/imported-files/data_sheets/ADG438F_439F.pdf; ComponentLink3Description: Package Specification; ComponentLink3URL: http://www.analog.com/static/imported-files/packages/PKG_PDF/SOIC_Narrow%20(R)/R_16.pdf
footprint ADI-R-16_N (SOIC, 16-Leads, Body 9.9x3.9mm, Pitch 1.27mm, IPC Medium Density)
footprint ADI-R-16_L (SOIC, 16-Leads, Body 9.9x3.9mm, Pitch 1.27mm, IPC High Density)
footprint ADI-R-16_M (SOIC, 16-Leads, Body 9.9x3.9mm, Pitch 1.27mm, IPC Low Density)
pins: 1 A0 (in) "Logic Control Input.", 2 EN (in) "Active High Digital Input. When low, the device is disabled and all switches are off. When high, Ax logic inputs determine on switches.", 3 VSS (power) "Most Negative Power Supply Potential in Dual Supplies. In single-supply applications, it can be connected to ground.", 4 S1A "Source Terminal 1A. Can be an input or an output.", 5 S2A "Source Terminal 2A. Can be an input or an output.", 6 S3A "Source Terminal 3A. Can be an input or an output.", 7 S4A "Source Terminal 4A. Can be an input or an output.", 8 DA "Drain Terminal A. Can be an input or an output.", 9 DB "Drain Terminal B. Can be an input or an output.", 10 S4B "Source Terminal 4B. Can be an input or an output.", 11 S3B "Source Terminal 3B. Can be an input or an output.", 12 S2B "Source Terminal 2B. Can be an input or an output.", 13 S1B "Source Terminal 1B. Can be an input or an output.", 14 VDD (power) "Most Positive Power Supply Potential.", 15 GND (power) "Ground (0 V) Reference.", 16 A1 (in) "Logic Control Input."

## ADG465BRM
designator U?
Single Channel Protector, 80 Ohm Ron, -40 to 85 degC, 8-pin SOP (RM-8), Tube; Manufacturer: Analog Devices; PartNumber: ADG465BRM; # Sw Functions: 1; Max Neg Supply: 20V; Ron (ohms): 80; DatasheetVersion: Rev. A; PackageVersion: Aug-05; PackageReference: RM-8; PackageDescription: 8-Pin Mini Small Outline Package, Body 3 x 3 mm, Pitch 0.65 mm; Supplier 1: Digi-Key; Supplier Part Number 1: ADG465BRM-ND; Supplier 2: Mouser; Supplier Part Number 2: 584-ADG465BRM; Configuration: Channel Protector; Max Pos Supply: 20V; Packing: Tube; Mounting Technology: Surface Mount; Code_JEDEC: MO-187-AA; ComponentLink1Description: Manufacturer URL; ComponentLink1URL: http://www.analog.com/en/index.html; ComponentLink2Description: Datasheet; ComponentLink2URL: http://www.analog.com/static/imported-files/data_sheets/ADG465.pdf; ComponentLink3Description: Package Specification; ComponentLink3URL: http://www.analog.com/static/imported-files/packages/PKG_PDF/MSOP%28RM%29/RM_8.pdf
footprint ADI-RM-8_N (SOP, 8-Leads, Body 3x3mm, Pitch 0.65mm, IPC Medium Density)
footprint ADI-RM-8_L (SOP, 8-Leads, Body 3x3mm, Pitch 0.65mm, IPC High Density)
footprint ADI-RM-8_M (SOP, 8-Leads, Body 3x3mm, Pitch 0.65mm, IPC Low Density)
pins: 1 NC "NC, this is a no connect pin.", 2 VDD (power) "VDD, Positive Power Supply (0 V to 20 V). The clamping point for a positive overvoltage is also defined by VDD, see Overvoltage Protection section.", 3 VS1 (io) "VS1, this is one terminal of the channel protector.The channel protector is bidirectional so this terminal may be used as an output or an input.", 4 NC "NC, this is a no connect pin.", 5 NC "NC, this is a no connect pin.", 6 VSS (power) "VSS, Negative Power Supply (0 V to -20 V).The clamping point for a negative overvoltage is also defined by VSS, see Overvoltage Protection section.", 7 VD1 (io) "VD1, this is one terminal of the channel protector.The channel protector is bidirectional so this terminal may be used as an input or an output.", 8 NC "NC, this is a no connect pin."

## ADG465BRT
designator U?
Single Channel Protector, 80 Ohm Ron, -40 to 85 degC, 6-pin SOT23 (RT-6), Tube; Manufacturer: Analog Devices; PartNumber: ADG465BRT; # Sw Functions: 1; Max Neg Supply: 20V; Ron (ohms): 80; DatasheetVersion: Rev. A; PackageVersion: REV. A, 11/2006; PackageReference: RT-6; PackageDescription: 6-Pin Plastic Surface Mount SOT-23 Package, Body 2.9 x 1.65 mm, Pitch 0.95 mm; Configuration: Channel Protector; Max Pos Supply: 20V; Packing: Tube; Mounting Technology: Surface Mount; ComponentLink1Description: Manufacturer URL; ComponentLink1URL: http://www.analog.com/en/index.html; ComponentLink2Description: Datasheet; ComponentLink2URL: http://www.analog.com/static/imported-files/data_sheets/ADG465.pdf; ComponentLink3Description: Package Specification; ComponentLink3URL: http://www.analog.com/static/imported-files/data_sheets/ADG465.pdf
footprint ADI-RT-6_N (SOT23, 6-Leads, Body 2.9x1.65mm, Pitch 0.95mm, IPC Medium Density)
footprint ADI-RT-6_L (SOT23, 6-Leads, Body 2.9x1.65mm, Pitch 0.95mm, IPC High Density)
footprint ADI-RT-6_M (SOT23, 6-Leads, Body 2.9x1.65mm, Pitch 0.95mm, IPC Low Density)
pins: 1 VD1 (io) "VD1, this is one terminal of the channel protector. The channel protector is bidirectional so this terminal may be used as an input or an output.", 2 NC "NC, this is a no connect pin.", 3 VSS (power) "VSS, Negative Power Supply (0 V to -20 V). The clamping point for a negative overvoltage is also defined by VSS, see Overvoltage Protection section.", 4 VS1 (io) "VS1, this is one terminal of the channel protector. The channel protector is bidirectional so this terminal may be used as an output or an input.", 5 NC "NC, this is a no connect pin.", 6 VDD (power) "VDD, Positive Power Supply (0 V to 20 V). The clamping point for a positive overvoltage is also defined by VDD, see Overvoltage Protection section."

## ADG467BR
designator U?
Octal Channel Protector, 62 Ohm Ron, -40 to 85 degC, 18-pin SOIC (RW-18), Tube; Manufacturer: Analog Devices; PartNumber: ADG467BR; # Sw Functions: 8; Max Neg Supply: 20V; Ron (ohms): 62; DatasheetVersion: Rev. B; PackageVersion: 060706-A, 06/2006; PackageReference: RW-18; PackageDescription: 18-Pin Standard Small Outline Package, Body 11.55 x 7.5 mm, Pitch 1.27 mm; Supplier 1: Digi-Key; Supplier Part Number 1: ADG467BR-ND; Supplier 2: Mouser; Supplier Part Number 2: 584-ADG467BR; Configuration: Channel Protector; Max Pos Supply: 20V; Packing: Tube; Mounting Technology: Surface Mount; Code_JEDEC: MS-013-AB; ComponentLink1Description: Manufacturer URL; ComponentLink1URL: http://www.analog.com/en/index.html; ComponentLink2Description: Datasheet; ComponentLink2URL: http://www.analog.com/static/imported-files/data_sheets/ADG467.pdf; ComponentLink3Description: Package Specification; ComponentLink3URL: http://www.analog.com/static/imported-files/packages/33254132129439RW_18.pdf
footprint ADI-RW-18_N (SOIC, 18-Leads, Body 11.55x7.5mm, Pitch 1.27mm, IPC Medium Density)
footprint ADI-RW-18_L (SOIC, 18-Leads, Body 11.55x7.5mm, Pitch 1.27mm, IPC High Density)
footprint ADI-RW-18_M (SOIC, 18-Leads, Body 11.55x7.5mm, Pitch 1.27mm, IPC Low Density)
pins: 1 VD1 "Drain Terminal 1. This pin can be an input or an output.", 2 VD2 "Drain Terminal 2. This pin can be an input or an output.", 3 VD3 "Drain Terminal 3. This pin can be an input or an output.", 4 VD4 "Drain Terminal 4. This pin can be an input or an output.", 5 VD5 "Drain Terminal 5. This pin can be an input or an output.", 6 VD6 "Drain Terminal 6. This pin can be an input or an output.", 7 VD7 "Drain Terminal 7. This pin can be an input or an output.", 8 VD8 "Drain Terminal 8. This pin can be an input or an output.", 9 VSS (power) "Most Negative Power Supply Potential. In single-supply applications, this pin can be connected to ground.", 10 VS8 "Source Terminal 1. This pin can be an input or an output.", 11 VS7 "Source Terminal 2. This pin can be an input or an output.", 12 VS6 "Source Terminal 3. This pin can be an input or an output.", 13 VS5 "Source Terminal 4. This pin can be an input or an output.", 14 VS4 "Source Terminal 5. This pin can be an input or an output.", 15 VS3 "Source Terminal 6. This pin can be an input or an output.", 16 VS2 "Source Terminal 7. This pin can be an input or an output.", 17 VS1 "Source Terminal 8. This pin can be an input or an output.", 18 VDD (power) "Most Positive Power Supply Potential."

## ADG467BR-REEL
designator U?
Octal Channel Protector, 62 Ohm Ron, -40 to 85 degC, 18-pin SOIC (RW-18), Reel; Manufacturer: Analog Devices; PartNumber: ADG467BR-REEL; # Sw Functions: 8; Max Neg Supply: 20V; Ron (ohms): 62; DatasheetVersion: Rev. B; PackageVersion: 060706-A, 06/2006; PackageReference: RW-18; PackageDescription: 18-Pin Standard Small Outline Package, Body 11.55 x 7.5 mm, Pitch 1.27 mm; Supplier 1: Digi-Key; Supplier Part Number 1: ADG467BR-REEL-ND; Supplier 2: Mouser; Supplier Part Number 2: 584-ADG467BR-R; Configuration: Channel Protector; Max Pos Supply: 20V; Packing: Reel; Mounting Technology: Surface Mount; Code_JEDEC: MS-013-AB; ComponentLink1Description: Manufacturer URL; ComponentLink1URL: http://www.analog.com/en/index.html; ComponentLink2Description: Datasheet; ComponentLink2URL: http://www.analog.com/static/imported-files/data_sheets/ADG467.pdf; ComponentLink3Description: Package Specification; ComponentLink3URL: http://www.analog.com/static/imported-files/packages/33254132129439RW_18.pdf
footprint ADI-RW-18_N (SOIC, 18-Leads, Body 11.55x7.5mm, Pitch 1.27mm, IPC Medium Density)
footprint ADI-RW-18_L (SOIC, 18-Leads, Body 11.55x7.5mm, Pitch 1.27mm, IPC High Density)
footprint ADI-RW-18_M (SOIC, 18-Leads, Body 11.55x7.5mm, Pitch 1.27mm, IPC Low Density)
pins: 1 VD1 "Drain Terminal 1. This pin can be an input or an output.", 2 VD2 "Drain Terminal 2. This pin can be an input or an output.", 3 VD3 "Drain Terminal 3. This pin can be an input or an output.", 4 VD4 "Drain Terminal 4. This pin can be an input or an output.", 5 VD5 "Drain Terminal 5. This pin can be an input or an output.", 6 VD6 "Drain Terminal 6. This pin can be an input or an output.", 7 VD7 "Drain Terminal 7. This pin can be an input or an output.", 8 VD8 "Drain Terminal 8. This pin can be an input or an output.", 9 VSS (power) "Most Negative Power Supply Potential. In single-supply applications, this pin can be connected to ground.", 10 VS8 "Source Terminal 1. This pin can be an input or an output.", 11 VS7 "Source Terminal 2. This pin can be an input or an output.", 12 VS6 "Source Terminal 3. This pin can be an input or an output.", 13 VS5 "Source Terminal 4. This pin can be an input or an output.", 14 VS4 "Source Terminal 5. This pin can be an input or an output.", 15 VS3 "Source Terminal 6. This pin can be an input or an output.", 16 VS2 "Source Terminal 7. This pin can be an input or an output.", 17 VS1 "Source Terminal 8. This pin can be an input or an output.", 18 VDD (power) "Most Positive Power Supply Potential."

## ADG467BR-REEL7
designator U?
Octal Channel Protector, 62 Ohm Ron, -40 to 85 degC, 18-pin SOIC (RW-18), Reel; Manufacturer: Analog Devices; PartNumber: ADG467BR-REEL7; # Sw Functions: 8; Max Neg Supply: 20V; Ron (ohms): 62; DatasheetVersion: Rev. B; PackageVersion: 060706-A, 06/2006; PackageReference: RW-18; PackageDescription: 18-Pin Standard Small Outline Package, Body 11.55 x 7.5 mm, Pitch 1.27 mm; Supplier 1: Digi-Key; Supplier Part Number 1: ADG467BR-REEL7-ND; Supplier 2: Mouser; Supplier Part Number 2: 584-ADG467BR-R7; Configuration: Channel Protector; Max Pos Supply: 20V; Packing: Reel; Mounting Technology: Surface Mount; Code_JEDEC: MS-013-AB; ComponentLink1Description: Manufacturer URL; ComponentLink1URL: http://www.analog.com/en/index.html; ComponentLink2Description: Datasheet; ComponentLink2URL: http://www.analog.com/static/imported-files/data_sheets/ADG467.pdf; ComponentLink3Description: Package Specification; ComponentLink3URL: http://www.analog.com/static/imported-files/packages/33254132129439RW_18.pdf
footprint ADI-RW-18_N (SOIC, 18-Leads, Body 11.55x7.5mm, Pitch 1.27mm, IPC Medium Density)
footprint ADI-RW-18_L (SOIC, 18-Leads, Body 11.55x7.5mm, Pitch 1.27mm, IPC High Density)
footprint ADI-RW-18_M (SOIC, 18-Leads, Body 11.55x7.5mm, Pitch 1.27mm, IPC Low Density)
pins: 1 VD1 "Drain Terminal 1. This pin can be an input or an output.", 2 VD2 "Drain Terminal 2. This pin can be an input or an output.", 3 VD3 "Drain Terminal 3. This pin can be an input or an output.", 4 VD4 "Drain Terminal 4. This pin can be an input or an output.", 5 VD5 "Drain Terminal 5. This pin can be an input or an output.", 6 VD6 "Drain Terminal 6. This pin can be an input or an output.", 7 VD7 "Drain Terminal 7. This pin can be an input or an output.", 8 VD8 "Drain Terminal 8. This pin can be an input or an output.", 9 VSS (power) "Most Negative Power Supply Potential. In single-supply applications, this pin can be connected to ground.", 10 VS8 "Source Terminal 1. This pin can be an input or an output.", 11 VS7 "Source Terminal 2. This pin can be an input or an output.", 12 VS6 "Source Terminal 3. This pin can be an input or an output.", 13 VS5 "Source Terminal 4. This pin can be an input or an output.", 14 VS4 "Source Terminal 5. This pin can be an input or an output.", 15 VS3 "Source Terminal 6. This pin can be an input or an output.", 16 VS2 "Source Terminal 7. This pin can be an input or an output.", 17 VS1 "Source Terminal 8. This pin can be an input or an output.", 18 VDD (power) "Most Positive Power Supply Potential."

## ADG467BRS
designator U?
Octal Channel Protector, 62 Ohm Ron, -40 to 85 degC, 20-pin SOP (RS-20), Tube; Manufacturer: Analog Devices; PartNumber: ADG467BRS; # Sw Functions: 8; Max Neg Supply: 20V; Ron (ohms): 62; DatasheetVersion: Rev. B; PackageVersion: Mar-03; PackageReference: RS-20; PackageDescription: 20-Pin Shrink Small Outline Package, Body 7.2 x 5.3 mm, Pitch 0.65 mm; Supplier 1: Digi-Key; Supplier Part Number 1: ADG467BRS-ND; Supplier 2: Mouser; Supplier Part Number 2: 584-ADG467BRS; Configuration: Channel Protector; Max Pos Supply: 20V; Packing: Tube; Mounting Technology: Surface Mount; Code_JEDEC: MO-150AE; ComponentLink1Description: Manufacturer URL; ComponentLink1URL: http://www.analog.com/en/index.html; ComponentLink2Description: Datasheet; ComponentLink2URL: http://www.analog.com/static/imported-files/data_sheets/ADG467.pdf; ComponentLink3Description: Package Specification; ComponentLink3URL: http://www.analog.com/static/imported-files/packages/318405805657546556503576154334802686596RS_20.pdf
footprint ADI-RS-20_N (SOP, 20-Leads, Body 7.2x5.3mm, Pitch 0.65mm, IPC Medium Density)
footprint ADI-RS-20_L (SOP, 20-Leads, Body 7.2x5.3mm, Pitch 0.65mm, IPC High Density)
footprint ADI-RS-20_M (SOP, 20-Leads, Body 7.2x5.3mm, Pitch 0.65mm, IPC Low Density)
pins: 1 VD1 "Drain Terminal 1. This pin can be an input or an output.", 2 VD2 "Drain Terminal 2. This pin can be an input or an output.", 3 VD3 "Drain Terminal 3. This pin can be an input or an output.", 4 VD4 "Drain Terminal 4. This pin can be an input or an output.", 5 VD5 "Drain Terminal 5. This pin can be an input or an output.", 6 VD6 "Drain Terminal 6. This pin can be an input or an output.", 7 VD7 "Drain Terminal 7. This pin can be an input or an output.", 8 VD8 "Drain Terminal 8. This pin can be an input or an output.", 9 VSS (power) "Most Negative Power Supply Potential. In single-supply applications, this pin can be connected to ground.", 10 NC "No Connect.", 11 VS8 "Source Terminal 1. This pin can be an input or an output.", 12 VS7 "Source Terminal 2. This pin can be an input or an output.", 13 VS6 "Source Terminal 3. This pin can be an input or an output.", 14 VS5 "Source Terminal 4. This pin can be an input or an output.", 15 VS4 "Source Terminal 5. This pin can be an input or an output.", 16 VS3 "Source Terminal 6. This pin can be an input or an output.", 17 VS2 "Source Terminal 7. This pin can be an input or an output.", 18 VS1 "Source Terminal 8. This pin can be an input or an output.", 19 VDD (power) "Most Positive Power Supply Potential.", 20 NC "No Connect. Do not connect to this pin."

## ADG467BRS-REEL
designator U?
Octal Channel Protector, 62 Ohm Ron, -40 to 85 degC, 20-pin SOP (RS-20), Reel; Manufacturer: Analog Devices; PartNumber: ADG467BRS-REEL; # Sw Functions: 8; Max Neg Supply: 20V; Ron (ohms): 62; DatasheetVersion: Rev. B; PackageVersion: Mar-03; PackageReference: RS-20; PackageDescription: 20-Pin Shrink Small Outline Package, Body 7.2 x 5.3 mm, Pitch 0.65 mm; Supplier 1: Digi-Key; Supplier Part Number 1: ADG467BRS-REEL-ND; Supplier 2: Newark; Supplier Part Number 2: 09B7085; Supplier 3: Mouser; Supplier Part Number 3: 584-ADG467BRS-R; Configuration: Channel Protector; Max Pos Supply: 20V; Packing: Reel; Mounting Technology: Surface Mount; Code_JEDEC: MO-150AE; ComponentLink1Description: Manufacturer URL; ComponentLink1URL: http://www.analog.com/en/index.html; ComponentLink2Description: Datasheet; ComponentLink2URL: http://www.analog.com/static/imported-files/data_sheets/ADG467.pdf; ComponentLink3Description: Package Specification; ComponentLink3URL: http://www.analog.com/static/imported-files/packages/318405805657546556503576154334802686596RS_20.pdf
footprint ADI-RS-20_N (SOP, 20-Leads, Body 7.2x5.3mm, Pitch 0.65mm, IPC Medium Density)
footprint ADI-RS-20_L (SOP, 20-Leads, Body 7.2x5.3mm, Pitch 0.65mm, IPC High Density)
footprint ADI-RS-20_M (SOP, 20-Leads, Body 7.2x5.3mm, Pitch 0.65mm, IPC Low Density)
pins: 1 VD1 "Drain Terminal 1. This pin can be an input or an output.", 2 VD2 "Drain Terminal 2. This pin can be an input or an output.", 3 VD3 "Drain Terminal 3. This pin can be an input or an output.", 4 VD4 "Drain Terminal 4. This pin can be an input or an output.", 5 VD5 "Drain Terminal 5. This pin can be an input or an output.", 6 VD6 "Drain Terminal 6. This pin can be an input or an output.", 7 VD7 "Drain Terminal 7. This pin can be an input or an output.", 8 VD8 "Drain Terminal 8. This pin can be an input or an output.", 9 VSS (power) "Most Negative Power Supply Potential. In single-supply applications, this pin can be connected to ground.", 10 NC "No Connect.", 11 VS8 "Source Terminal 1. This pin can be an input or an output.", 12 VS7 "Source Terminal 2. This pin can be an input or an output.", 13 VS6 "Source Terminal 3. This pin can be an input or an output.", 14 VS5 "Source Terminal 4. This pin can be an input or an output.", 15 VS4 "Source Terminal 5. This pin can be an input or an output.", 16 VS3 "Source Terminal 6. This pin can be an input or an output.", 17 VS2 "Source Terminal 7. This pin can be an input or an output.", 18 VS1 "Source Terminal 8. This pin can be an input or an output.", 19 VDD (power) "Most Positive Power Supply Potential.", 20 NC "No Connect. Do not connect to this pin."